# Altium footprint library 4.电源模块封装.PcbLib: 7 footprints
Each footprint in its own frame and in the unit in brackets; x right, y up, seen from the top. Pads: shape width x height; smd on the part's side, far side on the other; paste and mask are expansions set on the pad; w line width, h text height; cw(c..) or ccw(c..) is an arc to the next point about the centre after c.
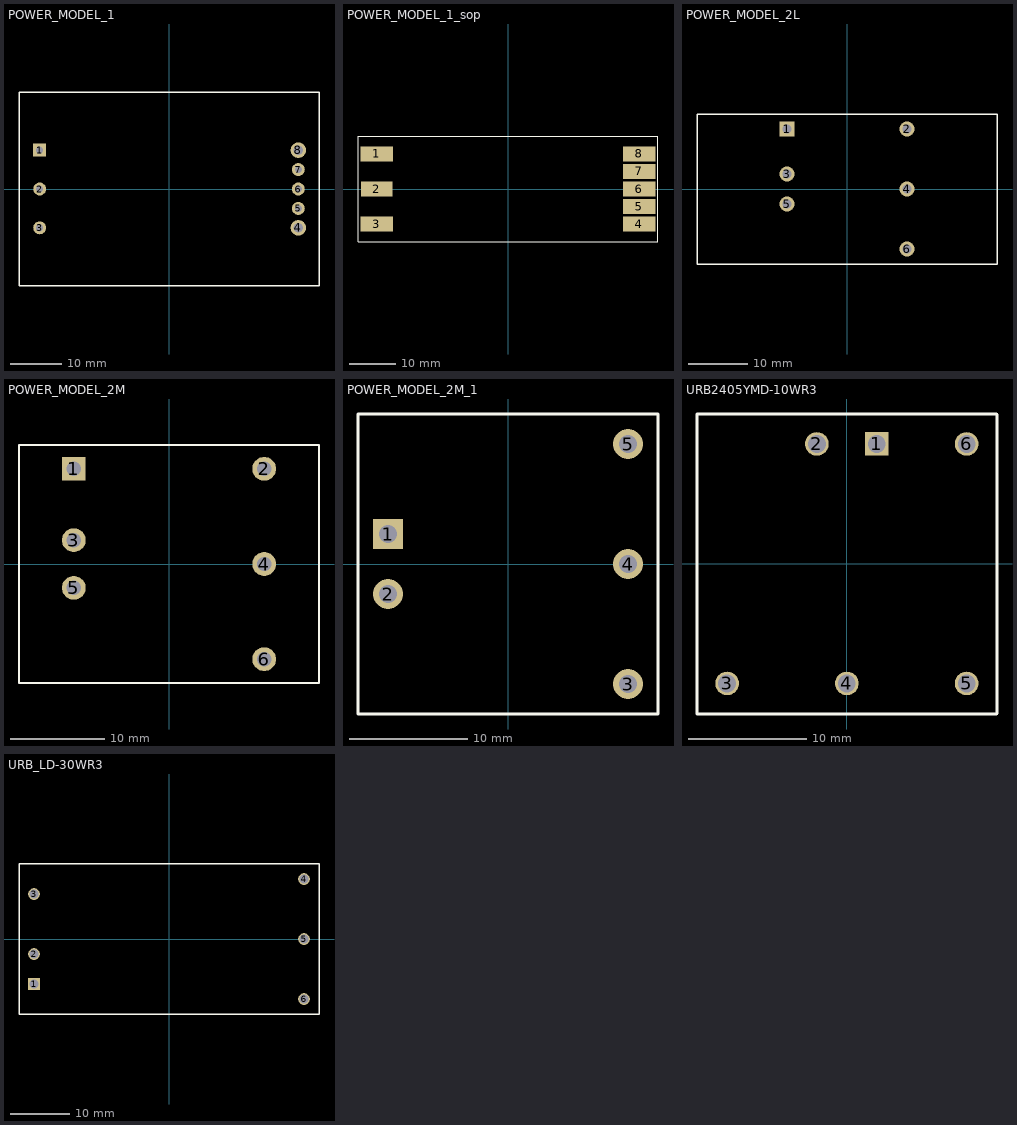
[diagram p0: the footprints below, top view; thin cyan lines are the x and y axes]

## POWER_MODEL_1 [mil]
pads (8):
  rect 100x100 hole 55: 1(-1000,300)
  round 100 hole 55: 2(-1000,0) 3(-1000,-300) 5(1000,-150) 6(1000,0) 7(1000,150)
  round 120 hole 75: 4(1000,-300) 8(1000,300)
Top Overlay:
  lines w10: -1160,-750 -1160,750 1160,750 1160,-750 -1160,-750

## POWER_MODEL_1_sop [mil]
pads (8):
  rect 280x130 smd: 1(-1125,300) 3(-1125,-300) 4(1125,-300) 5(1125,-150) 6(1125,0) 7(1125,150) 8(1125,300)
  rect 270x130 smd: 2(-1125,0)
Top Overlay:
  lines w10: -1285,-450 1285,-450 1285,450 -1285,450 -1285,-450

## POWER_MODEL_2L [mil]
pads (6):
  rect 100x100 hole 60: 1(-400,400)
  round 100 hole 60: 2(400,400) 3(-400,100) 4(400,0) 5(-400,-100) 6(400,-400)
Top Overlay:
  lines w10: -1000,-500 -1000,500 1000,500 1000,-500 -1000,-500

## POWER_MODEL_2M [mil]
pads (6):
  rect 100x100 hole 60: 1(-400,400)
  round 100 hole 60: 2(400,400) 3(-400,100) 4(400,0) 5(-400,-100) 6(400,-400)
Top Overlay:
  lines w10: -630,-500 -630,500 630,500 630,-500 -630,-500

## POWER_MODEL_2M_1 [mil]
pads (5):
  rect 100x100 hole 60: 1(-400,100)
  round 100 hole 60: 2(-400,-100) 3(400,-400) 4(400,0) 5(400,400)
Top Overlay:
  lines w10: -500,-500 500,-500 500,500 -500,500 -500,-500

## URB2405YMD-10WR3 [mm]
pads (6):
  rect 2x2 hole 1.5: 1(2.54,10.16)
  round 2 hole 1.5: 2(-2.54,10.16) 3(-10.16,-10.16) 4(0,-10.16) 5(10.16,-10.16) 6(10.16,10.16)
Top Overlay:
  lines w0.254: -12.7,-12.751 -12.7,12.7 12.7,12.7 12.725,12.675 12.725,-12.725 12.7,-12.751 -12.7,-12.751
Bottom Overlay:
  text "Vout-" at 11.836,-8.788 h1.52
  text "Vin-" at 5.639,7.163 h1.52
  text "GND" at 2.032,-8.788 h1.52
  text "Vin+" at -1.067,7.163 h1.52
  text "Vout+" at -5.41,-8.788 h1.52

## URB_LD-30WR3 [mm]
pads (6):
  rect 2x2 hole 1.5: 1(-22.86,-7.62)
  round 2 hole 1.5: 2(-22.86,-2.54) 3(-22.86,7.62) 4(22.86,10.16) 5(22.86,0) 6(22.86,-10.16)
Top Overlay:
  lines w0.254: -25.4,-12.7 25.4,-12.7 25.4,12.725 -25.375,12.725 -25.4,12.7 -25.4,-12.7
Bottom Overlay:
  text "Vout-" at 21.59,2.54 h1.52
  text "Vin-" at -17.78,-6.35 h1.52
  text "Vin+" at -17.78,1.27 h1.52
  text "Vout+" at 21.488,-5.41 h1.52